# Altium schematic symbol library PTH-Symbols.SchLib: 24 symbols
Pins are listed as number, name and electrical type; pins without a type are passive.

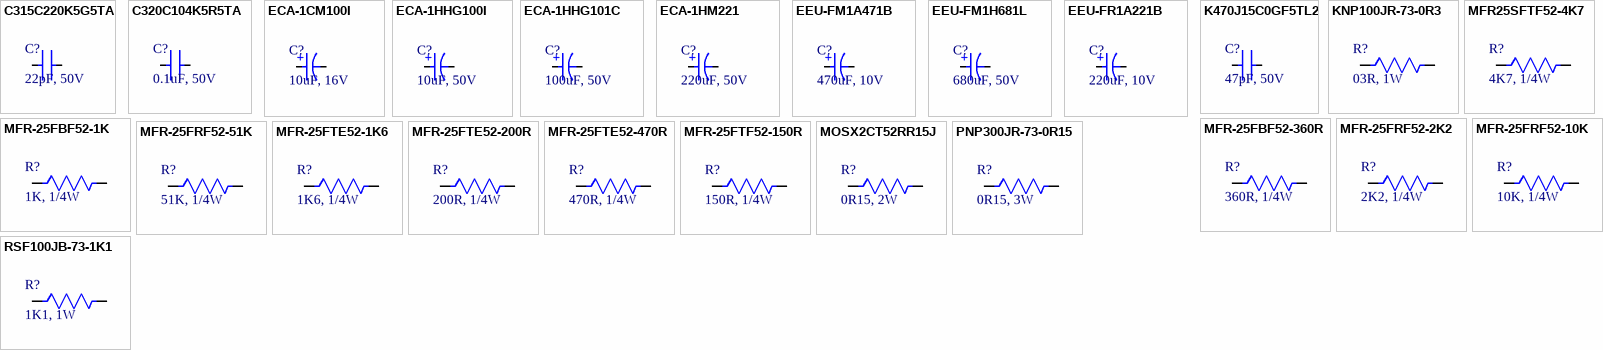
[diagram p0: symbols C315C220K5G5TA to RSF100JB-73-1K1]

## C315C220K5G5TA
designator C?, comment 22pF, 50V
CAP CER 22PF 50V NP0 RADIAL; Manufacturer: KEMET; Manufacturer Part Number: C315C220K5G5TA; Dielectric Material: Ceramic; Multilayer: Yes; Tolerance  (fill in as +-): 10%; Temperature Characteristics Code: C0G; Supplier: Digikey; Supplier Part Number: 399-9723-ND; RoHS: Yes; Category: Ceramic Capacitors; Stock: 2750; Pricing: 1=0.26, 10=0.171, 50=0.1262, 100=0.1028, 500=0.08116, 1000=0.06853, 2500=0.06492, 5000=0.0635 (USD); Mounting Technology: Through Hole; Pins: 2; Package Shape: Rectangular; Case/Package: 1510; Terminal Finish: Nickel; Min Operating Temperature: -55°C; Max Operating Temperature: 125°C; JESD-609 Code: e3; Value: 22pF; Capacitor Type: Ceramic; Package Style: RadialMeter; Packaging: Bulk; Tolerance (fill in as +-): 10%; Rated DC Voltage (URdc): 50V; Termination: Wire; Length: 3.81mm; Width: 2.54mm; Height: 5.33mm; Terminal Pitch: 2.54mm; Reach SVHC Compliant: Yes; RoHS Compliant: Yes; ComponentLink1URL: https://datasheet.ciiva.com:443/pdfs/VipMasterIC/IC/KEME/KEME-S-A0007358335/KEME-S-A0007358335-1.pdf?src-supplier=IHS+Markit; ComponentLink1Description: https://datasheet.ciiva.com:443/pdfs/VipMasterIC/IC/KEME/KEME-S-A0007358335/KEME-S-A0007358335-1.pdf?src-supplier=IHS+Markit; ComponentLink2URL: https://datasheet.ciiva.com/28366/706880-28366741.pdf?src-supplier=Element14; ComponentLink2Description: https://datasheet.ciiva.com/28366/706880-28366741.pdf?src-supplier=Element14
footprint CAP-RADIAL-PTH
pins: 1, 2

## C320C104K5R5TA
designator C?, comment 0.1uF, 50V
CAP CER 0.1UF 50V X7R RADIAL; Manufacturer: KEMET; Manufacturer Part Number: C320C104K5R5TA; Dielectric Material: Ceramic; Value: 100nF; Multilayer: Yes; Tolerance  (fill in as +-): 10%; Supplier: Digikey; Supplier Part Number: 399-4264-ND; RoHS: Yes; Category: Ceramic Capacitors; Stock: 12856; Pricing: 1=0.22, 10=0.144, 50=0.101, 100=0.0816, 500=0.0606, 1000=0.05302, 2500=0.0505, 5000=0.04671 (USD); Mounting Technology: Through Hole; Pins: 2; Package Shape: Rectangular; Terminal Finish: Nickel; Min Operating Temperature: -55°C; Max Operating Temperature: 125°C; JESD-609 Code: e3; Capacitor Type: Ceramic; Package Style: RadialMeter; Packaging: Bulk; Tolerance (fill in as +-): 10%; Rated DC Voltage (URdc): 50V; Temperature Characteristics Code: X7R; Termination: Wire; Length: 5.08mm; Width: 3.18mm; Height: 6.6mm; Terminal Pitch: 2.54mm; Reach SVHC Compliant: Yes; RoHS Compliant: Yes; ComponentLink1URL: https://datasheet.ciiva.com:443/pdfs/VipMasterIC/IC/KEME/KEME-S-A0009782347/KEME-S-A0009782347-1.pdf?src-supplier=IHS+Markit; ComponentLink1Description: https://datasheet.ciiva.com:443/pdfs/VipMasterIC/IC/KEME/KEME-S-A0009782347/KEME-S-A0009782347-1.pdf?src-supplier=IHS+Markit; ComponentLink2URL: https://datasheet.ciiva.com/7817/1732702-7817354.pdf?src-supplier=Element14; ComponentLink2Description: https://datasheet.ciiva.com/7817/1732702-7817354.pdf?src-supplier=Element14; ComponentLink3URL: https://datasheet.ciiva.com/11786/0900766b80717e24-11786584.pdf?src-supplier=Rs; ComponentLink3Description: https://datasheet.ciiva.com/11786/0900766b80717e24-11786584.pdf?src-supplier=Rs; ComponentLink4URL: https://datasheet.ciiva.com/39122/f3101-goldmax-39122993.pdf?src-supplier=Onlinecomponents.com; ComponentLink4Description: https://datasheet.ciiva.com/39122/f3101-goldmax-39122993.pdf?src-supplier=Onlinecomponents.com; ComponentLink5URL: https://datasheet.ciiva.com/27052/1570161-27052544.pdf?src-supplier=Jameco; ComponentLink5Description: https://datasheet.ciiva.com/27052/1570161-27052544.pdf?src-supplier=Jameco; ComponentLink6URL: https://datasheet.ciiva.com/7817/f3101-goldmax-7817514.pdf?src-supplier=Element14; ComponentLink6Description: https://datasheet.ciiva.com/7817/f3101-goldmax-7817514.pdf?src-supplier=Element14; ComponentLink7URL: https://datasheet.ciiva.com/14585/70095037-14585005.pdf?src-supplier=Allied+Electronics; ComponentLink7Description: https://datasheet.ciiva.com/14585/70095037-14585005.pdf?src-supplier=Allied+Electronics; ComponentLink8URL: https://datasheet.ciiva.com/5389/f3101-goldmax-334604-5389886.pdf?src-supplier=Mouser; ComponentLink8Description: https://datasheet.ciiva.com/5389/f3101-goldmax-334604-5389886.pdf?src-supplier=Mouser
footprint CAP-RADIAL-MEDIUM-PTH
pins: 1, 2

## ECA-1CM100I
designator C?, comment 10uF, 16V
CAP ALUM 10UF 20% 16V RADIAL; Manufacturer: Panasonic; Manufacturer Part Number: ECA-1CM100I; Manufacturer Series: M; Dielectric Material: Aluminium; Polarity: Polarized; Leakage Current: 3uA; Ripple Current: 30mA; Tan Delta: 0.2; Supplier: Digikey; Supplier Part Number: P19513CT-ND; RoHS: Yes; Category: Aluminum Electrolytic Capacitors; Stock: 12491; Pricing: 1=0.21, 10=0.136, 50=0.0858, 100=0.0686, 500=0.04954, 1000=0.04383 (USD); Mounting Technology: Through Hole; Pins: 2; Package Shape: Cylindrical; Terminal Finish: Tin; Min Operating Temperature: -40°C; Max Operating Temperature: 85°C; JESD-609 Code: e3; Value: 10uF; Capacitor Type: Aluminium; Tolerance  (fill in as +-): 20%; Package Style: RadialMeter; Packaging: Tape and Reel; Tolerance (fill in as +-): 20%; Rated DC Voltage (URdc): 16V; Series: ECA-M; Termination: Wire; Diameter: 5mm; Length: 11mm; Terminal Pitch: 2.5mm; Reach SVHC Compliant: Yes; RoHS Compliant: Yes; ComponentLink1URL: https://datasheet.ciiva.com:443/pdfs/VipMasterIC/IC/PANA/PANA-S-A0009891632/PANA-S-A0009891632-1.pdf?src-supplier=IHS+Markit; ComponentLink1Description: https://datasheet.ciiva.com:443/pdfs/VipMasterIC/IC/PANA/PANA-S-A0009891632/PANA-S-A0009891632-1.pdf?src-supplier=IHS+Markit; ComponentLink2URL: http://industrial.panasonic.com/www-cgi/jvcr13pz.cgi?E+PZ+3+ABA0012+ECA1CM100I+7+WW?src-supplier=Digikey; ComponentLink2Description: http://industrial.panasonic.com/www-cgi/jvcr13pz.cgi?E+PZ+3+ABA0012+ECA1CM100I+7+WW?src-supplier=Digikey; ComponentLink3URL: https://media.digikey.com/pdf/Data%20Sheets/Panasonic%20Electronic%20Components/ECA-xxM%20Series,TypeA.pdf?src-supplier=Digikey; ComponentLink3Description: https://media.digikey.com/pdf/Data%20Sheets/Panasonic%20Electronic%20Components/ECA-xxM%20Series,TypeA.pdf?src-supplier=Digikey; ComponentLink4URL: https://datasheet.octopart.com/ECA-1CM100I-Panasonic-datasheet-136531302.pdf?src-supplier=Newark; ComponentLink4Description: https://datasheet.octopart.com/ECA-1CM100I-Panasonic-datasheet-136531302.pdf?src-supplier=Newark; ComponentLink5URL: https://datasheet.octopart.com/ECA-1CM100I-Panasonic-datasheet-13269089.pdf?src-supplier=Electro+Sonic; ComponentLink5Description: https://datasheet.octopart.com/ECA-1CM100I-Panasonic-datasheet-13269089.pdf?src-supplier=Electro+Sonic; ComponentLink6URL: https://datasheet.octopart.com/ECA1CM100I-Panasonic-datasheet-151511718.pdf?src-supplier=TME; ComponentLink6Description: https://datasheet.octopart.com/ECA1CM100I-Panasonic-datasheet-151511718.pdf?src-supplier=TME; ComponentLink7URL: https://datasheet.octopart.com/ECA-1CM100I-Panasonic-datasheet-154766079.pdf?src-supplier=Master+Electronics; ComponentLink7Description: https://datasheet.octopart.com/ECA-1CM100I-Panasonic-datasheet-154766079.pdf?src-supplier=Master+Electronics
footprint ECAP-10UF-16V
pins: 1, 2
text: +

## ECA-1HHG100I
designator C?, comment 10uF, 50V
CAP ALUM 10UF 20% 50V RADIAL TH; Manufacturer: Panasonic; Manufacturer Part Number: ECA-1HHG100I; Manufacturer Series: NHG; Dielectric Material: Aluminium; Polarity: Polarized; Leakage Current: 5uA; Ripple Current: 39mA; Tan Delta: 0.12; Supplier: Digikey; Supplier Part Number: P19445CT-ND; RoHS: Yes; Category: Aluminum Electrolytic Capacitors; Stock: 35585; Pricing: 1=0.19, 10=0.123, 50=0.0864, 100=0.0697, 500=0.0518, 1000=0.04533 (USD); Mounting Technology: Through Hole; Pins: 2; Package Shape: Cylindrical; Terminal Finish: Tin; Min Operating Temperature: -55°C; Max Operating Temperature: 105°C; JESD-609 Code: e3; Value: 10uF; Capacitor Type: Aluminium; Tolerance  (fill in as +-): 20%; Package Style: RadialMeter; Packaging: Tape and Reel; Tolerance (fill in as +-): 20%; Rated DC Voltage (URdc): 50V; Series: ECA-NHG; Termination: Wire; Diameter: 5mm; Length: 11mm; Terminal Pitch: 2.5mm; Reach SVHC Compliant: Yes; RoHS Compliant: Yes; ComponentLink1URL: https://datasheet.ciiva.com:443/pdfs/VipMasterIC/IC/PANA/PANA-S-A0009903858/PANA-S-A0009903858-1.pdf?src-supplier=IHS+Markit; ComponentLink1Description: https://datasheet.ciiva.com:443/pdfs/VipMasterIC/IC/PANA/PANA-S-A0009903858/PANA-S-A0009903858-1.pdf?src-supplier=IHS+Markit; ComponentLink2URL: https://datasheet.ciiva.com/26882/getdatasheetpartid-479260-26882746.pdf?src-supplier=Verical; ComponentLink2Description: https://datasheet.ciiva.com/26882/getdatasheetpartid-479260-26882746.pdf?src-supplier=Verical; ComponentLink3URL: https://datasheet.ciiva.com/11680/aba0000ce26-11680984.pdf?src-supplier=Avnet; ComponentLink3Description: https://datasheet.ciiva.com/11680/aba0000ce26-11680984.pdf?src-supplier=Avnet
footprint ECAP-10UF-50V
pins: 1, 2
text: +

## ECA-1HHG101C
designator C?, comment 100uF, 50V
CAP ALUM 100UF 20% 50V RADIAL TH; Manufacturer: Panasonic; Manufacturer Part Number: ECA-1HHG101C; Supplier: Digikey; Supplier Part Number: 10-ECA-1HHG101C-ND; RoHS: Yes; Category: Aluminum Electrolytic Capacitors; Stock: 204; Pricing: 1=0.33, 10=0.215, 50=0.1586, 200=0.1291, 600=0.10192, 1000=0.08607, 2600=0.08153, 5000=0.07975 (USD); ComponentLink1URL: https://datasheet.ciiva.com/24228/a-e-461514-24228799.pdf?src-supplier=Mouser; ComponentLink1Description: https://datasheet.ciiva.com/24228/a-e-461514-24228799.pdf?src-supplier=Mouser; Value: 100uF
footprint ECAP-100UF-50V
pins: 1, 2
text: +

## ECA-1HM221
designator C?, comment 220uF, 50V
CAP ALUM 220UF 20% 50V RADIAL; Manufacturer: Panasonic; Manufacturer Part Number: ECA-1HM221; Dielectric Material: Aluminium; Polarity: Polarized; Leakage Current: 110uA; Ripple Current: 400mA; Tan Delta: 0.12; Supplier: Digikey; Supplier Part Number: P5183-ND; RoHS: Yes; Category: Aluminum Electrolytic Capacitors; Stock: 45823; Pricing: 1=0.51, 10=0.345, 200=0.22705, 1000=0.15076, 5000=0.13302, 10000=0.12416 (USD); Mounting Technology: Through Hole; Pins: 2; Package Shape: Cylindrical; Terminal Finish: Tin; Min Operating Temperature: -40°C; Max Operating Temperature: 85°C; JESD-609 Code: e3; Value: 220uF; Capacitor Type: Aluminium; Tolerance  (fill in as +-): 20%; Package Style: RadialMeter; Packaging: Bulk; Tolerance (fill in as +-): 20%; Rated DC Voltage (URdc): 50V; Termination: Wire; Diameter: 10mm; Length: 12.5mm; Terminal Pitch: 5mm; Reach SVHC Compliant: Yes; RoHS Compliant: Yes; ComponentLink1URL: https://datasheet.ciiva.com:443/pdfs/VipMasterIC/IC/PANA/PANA-S-A0009459698/PANA-S-A0009459698-1.pdf?src-supplier=IHS+Markit; ComponentLink1Description: https://datasheet.ciiva.com:443/pdfs/VipMasterIC/IC/PANA/PANA-S-A0009459698/PANA-S-A0009459698-1.pdf?src-supplier=IHS+Markit; ComponentLink2URL: https://datasheet.ciiva.com/11778/0900766b800274c2-11778160.pdf?src-supplier=Rs; ComponentLink2Description: https://datasheet.ciiva.com/11778/0900766b800274c2-11778160.pdf?src-supplier=Rs; ComponentLink3URL: https://datasheet.ciiva.com/11213/aba0000ce12-11213503.pdf?src-supplier=Avnet; ComponentLink3Description: https://datasheet.ciiva.com/11213/aba0000ce12-11213503.pdf?src-supplier=Avnet; ComponentLink4URL: https://datasheet.ciiva.com/24236/aba0000ce12-465472-24236268.pdf?src-supplier=Mouser; ComponentLink4Description: https://datasheet.ciiva.com/24236/aba0000ce12-465472-24236268.pdf?src-supplier=Mouser; ComponentLink5URL: https://datasheet.ciiva.com/48520/radial-m-eng-tds-48520281.pdf?src-supplier=Distrelec; ComponentLink5Description: https://datasheet.ciiva.com/48520/radial-m-eng-tds-48520281.pdf?src-supplier=Distrelec; ComponentLink6URL: https://datasheet.ciiva.com/14586/70067785-14586382.pdf?src-supplier=Allied+Electronics; ComponentLink6Description: https://datasheet.ciiva.com/14586/70067785-14586382.pdf?src-supplier=Allied+Electronics; ComponentLink7URL: https://datasheet.ciiva.com/14598/70067785-14598408.pdf?src-supplier=Allied+Electronics; ComponentLink7Description: https://datasheet.ciiva.com/14598/70067785-14598408.pdf?src-supplier=Allied+Electronics; ComponentLink8URL: https://datasheet.ciiva.com/16202/aba0000ce12-16202936.pdf?src-supplier=Future+Electronics; ComponentLink8Description: https://datasheet.ciiva.com/16202/aba0000ce12-16202936.pdf?src-supplier=Future+Electronics; ComponentLink9URL: https://datasheet.ciiva.com/15925/aba0000ce12-15925304.pdf?src-supplier=Onlinecomponents.com; ComponentLink9Description: https://datasheet.ciiva.com/15925/aba0000ce12-15925304.pdf?src-supplier=Onlinecomponents.com
footprint ECAP-10x125
pins: 1, 2
text: +

## EEU-FM1A471B
designator C?, comment 470uF, 10V
CAP ALUM 470UF 20% 10V RADIAL; Manufacturer: Panasonic; Manufacturer Part Number: EEU-FM1A471B; Manufacturer Series: FM; Dielectric Material: Aluminium; Polarity: Polarized; Leakage Current: 47uA; Ripple Current: 712.5mA; Tan Delta: 0.19; Supplier: Digikey; Supplier Part Number: P19696CT-ND; RoHS: Yes; Category: Aluminum Electrolytic Capacitors; Stock: 4062; Pricing: 1=0.29, 10=0.197, 50=0.1572, 100=0.1298, 500=0.10138 (USD); Mounting Technology: Through Hole; Pins: 2; Package Shape: Cylindrical; Terminal Finish: Tin; Min Operating Temperature: -40°C; Max Operating Temperature: 105°C; JESD-609 Code: e3; Value: 470uF; Capacitor Type: Aluminium; Tolerance  (fill in as +-): 20%; Package Style: RadialMeter; Packaging: Tape and Reel; Tolerance (fill in as +-): 20%; Rated DC Voltage (URdc): 10V; Series: EEU-FM; Termination: Wire; Diameter: 8mm; Length: 11.5mm; Terminal Pitch: 5mm; Reach SVHC Compliant: Yes; RoHS Compliant: Yes; ComponentLink1URL: https://datasheet.ciiva.com:443/pdfs/VipMasterIC/IC/PANA/PANA-S-A0009001277/PANA-S-A0009001277-1.pdf?src-supplier=IHS+Markit; ComponentLink1Description: https://datasheet.ciiva.com:443/pdfs/VipMasterIC/IC/PANA/PANA-S-A0009001277/PANA-S-A0009001277-1.pdf?src-supplier=IHS+Markit; ComponentLink2URL: https://datasheet.ciiva.com/24233/a-e-461514-24233644.pdf?src-supplier=Mouser; ComponentLink2Description: https://datasheet.ciiva.com/24233/a-e-461514-24233644.pdf?src-supplier=Mouser; ComponentLink3URL: https://datasheet.ciiva.com/11679/aba0000ce108-11679159.pdf?src-supplier=Avnet; ComponentLink3Description: https://datasheet.ciiva.com/11679/aba0000ce108-11679159.pdf?src-supplier=Avnet
footprint ECAP-8X11.5
pins: 1, 2
text: +

## EEU-FM1H681L
designator C?, comment 680uF, 50V
CAP ALUM 680UF 20% 50V RADIAL; Manufacturer: Panasonic; Manufacturer Part Number: EEU-FM1H681L; Dielectric Material: Aluminium; Polarity: Polarized; Leakage Current: 340uA; Ripple Current: 2.37A; Tan Delta: 0.1; Supplier: Digikey; Supplier Part Number: P12402-ND; RoHS: Yes; Category: Aluminum Electrolytic Capacitors; Stock: 7037; Pricing: 1=1.09, 10=0.821, 50=0.7488, 100=0.6134, 500=0.48958, 1000=0.43198, 2500=0.40318, 5000=0.38878 (USD); Mounting Technology: Through Hole; Pins: 2; Package Shape: Cylindrical; Terminal Finish: Tin; Min Operating Temperature: -40°C; Max Operating Temperature: 105°C; JESD-609 Code: e3; Value: 680uF; Capacitor Type: Aluminium; Tolerance  (fill in as +-): 20%; Package Style: RadialMeter; Packaging: Bulk; Tolerance (fill in as +-): 20%; Rated DC Voltage (URdc): 50V; Termination: Wire; Diameter: 12.5mm; Length: 30mm; Terminal Pitch: 5mm; Reach SVHC Compliant: Yes; RoHS Compliant: Yes; ComponentLink1URL: https://datasheet.ciiva.com:443/pdfs/VipMasterIC/IC/PANA/PANA-S-A0009001277/PANA-S-A0009001277-1.pdf?src-supplier=IHS+Markit; ComponentLink1Description: https://datasheet.ciiva.com:443/pdfs/VipMasterIC/IC/PANA/PANA-S-A0009001277/PANA-S-A0009001277-1.pdf?src-supplier=IHS+Markit; ComponentLink2URL: https://datasheet.ciiva.com/11779/0900766b805f3abe-11779767.pdf?src-supplier=Rs; ComponentLink2Description: https://datasheet.ciiva.com/11779/0900766b805f3abe-11779767.pdf?src-supplier=Rs; ComponentLink3URL: https://datasheet.ciiva.com/43458/654842-43458649.pdf?src-supplier=Farnell; ComponentLink3Description: https://datasheet.ciiva.com/43458/654842-43458649.pdf?src-supplier=Farnell; ComponentLink4URL: https://datasheet.ciiva.com/11676/aba0000ce108-11676926.pdf?src-supplier=Avnet; ComponentLink4Description: https://datasheet.ciiva.com/11676/aba0000ce108-11676926.pdf?src-supplier=Avnet; ComponentLink5URL: https://datasheet.ciiva.com/24023/a-e-461514-24023672.pdf?src-supplier=Mouser; ComponentLink5Description: https://datasheet.ciiva.com/24023/a-e-461514-24023672.pdf?src-supplier=Mouser; ComponentLink6URL: https://datasheet.ciiva.com/48542/eeufm-series-eng-tds-48542649.pdf?src-supplier=Distrelec; ComponentLink6Description: https://datasheet.ciiva.com/48542/eeufm-series-eng-tds-48542649.pdf?src-supplier=Distrelec; ComponentLink7URL: https://datasheet.ciiva.com/46440/654842-46440665.pdf?src-supplier=Element14; ComponentLink7Description: https://datasheet.ciiva.com/46440/654842-46440665.pdf?src-supplier=Element14; ComponentLink8URL: https://datasheet.ciiva.com/14601/70068540-14601481.pdf?src-supplier=Allied+Electronics; ComponentLink8Description: https://datasheet.ciiva.com/14601/70068540-14601481.pdf?src-supplier=Allied+Electronics; ComponentLink9URL: https://datasheet.ciiva.com/30112/aba0000ce108-30112461.pdf?src-supplier=Onlinecomponents.com; ComponentLink9Description: https://datasheet.ciiva.com/30112/aba0000ce108-30112461.pdf?src-supplier=Onlinecomponents.com
footprint ECAP-12.5X30
pins: 1, 2
text: +

## EEU-FR1A221B
designator C?, comment 220uF, 10V
CAP ALUM 220UF 20% 10V RADIAL TH; Manufacturer: Panasonic; Manufacturer Part Number: EEU-FR1A221B; Manufacturer Series: FR; Dielectric Material: Aluminium; Polarity: Polarized; Leakage Current: 22uA; Ripple Current: 318.5mA; Tan Delta: 0.19; Supplier: Digikey; Supplier Part Number: P15322CT-ND; RoHS: Yes; Category: Aluminum Electrolytic Capacitors; Stock: 11231; Pricing: 1=0.27, 10=0.179, 50=0.1322, 100=0.1077, 500=0.08498, 1000=0.07177 (USD); Mounting Technology: Through Hole; Pins: 2; Package Shape: Cylindrical; Terminal Finish: Tin; Min Operating Temperature: -40°C; Max Operating Temperature: 105°C; JESD-609 Code: e3; Value: 220uF; Capacitor Type: Aluminium; Tolerance  (fill in as +-): 20%; Package Style: RadialMeter; Packaging: Tape and Reel; Tolerance (fill in as +-): 20%; Rated DC Voltage (URdc): 10V; Series: EEU-FR; Termination: Wire; Diameter: 6.3mm; Length: 11.2mm; Terminal Pitch: 5mm; Reach SVHC Compliant: Yes; RoHS Compliant: Yes; ComponentLink1URL: https://datasheet.ciiva.com:443/pdfs/VipMasterIC/IC/PANA/PANA-S-A0009000947/PANA-S-A0009000947-1.pdf?src-supplier=IHS+Markit; ComponentLink1Description: https://datasheet.ciiva.com:443/pdfs/VipMasterIC/IC/PANA/PANA-S-A0009000947/PANA-S-A0009000947-1.pdf?src-supplier=IHS+Markit; ComponentLink2URL: https://datasheet.ciiva.com/11679/aba0000ce132-11679829.pdf?src-supplier=Avnet; ComponentLink2Description: https://datasheet.ciiva.com/11679/aba0000ce132-11679829.pdf?src-supplier=Avnet; ComponentLink3URL: https://datasheet.ciiva.com/14602/70257620-14602967.pdf?src-supplier=Allied+Electronics; ComponentLink3Description: https://datasheet.ciiva.com/14602/70257620-14602967.pdf?src-supplier=Allied+Electronics; ComponentLink4URL: https://datasheet.ciiva.com/30222/9aba0000ce132-30222781.pdf?src-supplier=Onlinecomponents.com; ComponentLink4Description: https://datasheet.ciiva.com/30222/9aba0000ce132-30222781.pdf?src-supplier=Onlinecomponents.com; ComponentLink5URL: https://datasheet.ciiva.com/16390/aba0000ce132-16390460.pdf?src-supplier=Future+Electronics; ComponentLink5Description: https://datasheet.ciiva.com/16390/aba0000ce132-16390460.pdf?src-supplier=Future+Electronics
footprint ECAP-220UF10V
pins: 1, 2
text: +

## K470J15C0GF5TL2
designator C?, comment 47pF, 50V
CAP CER 47PF 50V C0G/NP0 RADIAL; Manufacturer: Vishay BCcomponents; Manufacturer Part Number: K470J15C0GF5TL2; Dielectric Material: Ceramic; Multilayer: Yes; Tolerance  (fill in as +-): 5%; Temperature Characteristics Code: C0G; Supplier: Digikey; Supplier Part Number: BC1009CT-ND; RoHS: Yes; Category: Ceramic Capacitors; Stock: 46151; Pricing: 1=0.16, 10=0.106, 50=0.0744, 100=0.0601, 500=0.04464, 1000=0.03906 (USD); Mounting Technology: Through Hole; Pins: 2; Package Shape: Rectangular; Terminal Finish: Tin; Min Operating Temperature: -55°C; Max Operating Temperature: 125°C; JESD-609 Code: e3; Value: 47pF; Capacitor Type: Ceramic; Package Style: RadialMeter; Packaging: Tape and Reel; Tolerance (fill in as +-): 5%; Rated DC Voltage (URdc): 50V; Termination: Wire; Length: 4mm; Width: 2.5mm; Height: 5.58mm; Terminal Pitch: 2.5mm; Reach SVHC Compliant: Yes; RoHS Compliant: Yes; ComponentLink1URL: https://datasheet.ciiva.com:443/pdfs/VipMasterIC/IC/VISH/VISHS88539/VISHS88539-1.pdf?src-supplier=IHS+Markit; ComponentLink1Description: https://datasheet.ciiva.com:443/pdfs/VipMasterIC/IC/VISH/VISHS88539/VISHS88539-1.pdf?src-supplier=IHS+Markit; ComponentLink2URL: https://datasheet.ciiva.com/145/kseries-145766.pdf?src-supplier=Digikey; ComponentLink2Description: https://datasheet.ciiva.com/145/kseries-145766.pdf?src-supplier=Digikey; ComponentLink3URL: https://datasheet.ciiva.com/145/kseries-145767.pdf?src-supplier=Digikey; ComponentLink3Description: https://datasheet.ciiva.com/145/kseries-145767.pdf?src-supplier=Digikey; ComponentLink4URL: https://datasheet.ciiva.com/7974/1682830-7974863.pdf?src-supplier=Element14; ComponentLink4Description: https://datasheet.ciiva.com/7974/1682830-7974863.pdf?src-supplier=Element14
footprint CAP-RADIAL-PTH
pins: 1, 2

## KNP100JR-73-0R3
designator R?, comment 03R, 1W
RES 0.3 OHM 5% 1W AXIAL; Manufacturer: Yageo; Manufacturer Part Number: KNP100JR-73-0R3; Value: 0R3; Supplier: Digikey; Supplier Part Number: 13-KNP100JR-73-0R3CT-ND; RoHS: Yes; Category: Through-Hole Resistors; Stock: 3158; Pricing: 1=0.33, 10=0.225, 25=0.1752, 50=0.1292, 100=0.0898, 250=0.07828, 500=0.06456, 1000=0.04836 (USD); RoHS Compliant: Yes; ComponentLink1URL: https://datasheet.ciiva.com/2711/yageolr-knp-2013-2711818.pdf?src-supplier=Digikey; ComponentLink1Description: https://datasheet.ciiva.com/2711/yageolr-knp-2013-2711818.pdf?src-supplier=Digikey; ComponentLink2URL: https://datasheet.ciiva.com/2711/yageolr-knp-2013-2711817.pdf?src-supplier=Digikey; ComponentLink2Description: https://datasheet.ciiva.com/2711/yageolr-knp-2013-2711817.pdf?src-supplier=Digikey
footprint RES-03R-1W
pins: 1, 2

## MFR25SFTF52-4K7
designator R?, comment 4K7, 1/4W
RES 4.7K OHM 1% 1/4W AXIAL; Manufacturer: Yageo; Manufacturer Part Number: MFR25SFTF52-4K7; Supplier: Digikey; Supplier Part Number: 13-MFR25SFTF52-4K7CT-ND; RoHS: Yes; Category: Through-Hole Resistors; Stock: 13558; Pricing: 1=0.1, 10=0.071, 25=0.052, 50=0.0402, 100=0.0273, 250=0.02244, 500=0.01784, 1000=0.01267 (USD); ComponentLink1URL: https://datasheet.ciiva.com:443/pdfs/VipMasterIC/IC/YAGO/YAGO-S-A0009358480/YAGO-S-A0009358480-1.pdf?src-supplier=IHS+Markit; ComponentLink1Description: https://datasheet.ciiva.com:443/pdfs/VipMasterIC/IC/YAGO/YAGO-S-A0009358480/YAGO-S-A0009358480-1.pdf?src-supplier=IHS+Markit; ComponentLink2URL: https://www.yageo.com/upload/media/product/products/datasheet/lr/Yageo_LR_MFR_1.pdf?src-supplier=Digikey; ComponentLink2Description: https://www.yageo.com/upload/media/product/products/datasheet/lr/Yageo_LR_MFR_1.pdf?src-supplier=Digikey; Value: 4k7
footprint RES-4K7-0W250
pins: 1, 2

## MFR-25FBF52-1K
designator R?, comment 1K, 1/4W
RES 1K OHM 1% 1/4W AXIAL; Manufacturer: Yageo; Manufacturer Part Number: MFR-25FBF52-1K; Power: 250mW; Value: 1kR; Temperature Coefficient: 100ppm/°C; Working Voltage: 250V; Rated Temperature: 70°C; Lead Diameter: 0.55mm; Lead Length: 28mm; Package Diameter: 2.4mm; Package Length: 6.3mm; Supplier: Digikey; Supplier Part Number: 1.00KXBK-ND; RoHS: Yes; Category: Through-Hole Resistors; Stock: 60605; Pricing: 1=0.1, 10=0.077, 25=0.056, 50=0.0436, 100=0.0296, 250=0.02428, 500=0.01928, 1000=0.01369, 5000=0.01058 (USD); Mounting Technology: Through Hole; Pins: 2; Package Shape: Tubular; Terminal Finish: Tin; Min Operating Temperature: -55°C; Max Operating Temperature: 155°C; Tolerance: 1%; JESD-609 Code: e3; Resistor Type: FIXED RESISTOR; Construction: Cylindrical; Package Style: AxialMeter; Packaging: Bulk; Technology: METAL FILM; Termination: Wire; Reach SVHC Compliant: Yes; RoHS Compliant: Yes; ComponentLink1URL: https://datasheet.ciiva.com:443/pdfs/VipMasterIC/IC/YAGO/YAGOS02704/YAGOS02704-1.pdf?src-supplier=IHS+Markit; ComponentLink1Description: https://datasheet.ciiva.com:443/pdfs/VipMasterIC/IC/YAGO/YAGOS02704/YAGOS02704-1.pdf?src-supplier=IHS+Markit; ComponentLink2URL: https://datasheet.ciiva.com/25646/yageolr-mfr-2013-25646206.pdf?src-supplier=Digikey; ComponentLink2Description: https://datasheet.ciiva.com/25646/yageolr-mfr-2013-25646206.pdf?src-supplier=Digikey
footprint RES-1K-0W250
pins: 1, 2

## MFR-25FBF52-360R
designator R?, comment 360R, 1/4W
RES 360 OHM 1% 1/4W AXIAL; Manufacturer: Yageo; Manufacturer Part Number: MFR-25FBF52-360R; Power: 250mW; Temperature Coefficient: -100100ppm/°C; Working Voltage: 250V; Lead Diameter: 0.55mm; Lead Length: 28mm; Package Diameter: 2.4mm; Package Length: 6.3mm; Supplier: DigiKey; Supplier Part Number: 13-MFR-25FBF52-360R-ND; Category: Through-Hole Resistors; Stock: 9990; Pricing: 1=0.1, 10=0.077, 25=0.056, 50=0.0436, 100=0.0296, 250=0.02428, 500=0.01928, 1000=0.01369, 5000=0.01058 (USD); Pins: 2; Package Shape: Cylindrical; Terminal Finish: Tin; Min Operating Temperature: -55°C; Max Operating Temperature: 155°C; Tolerance: 1%; JESD-609 Code: e3; Resistor Type: FIXED RESISTOR; Construction: Cylindrical; Package Style: AxialMeter; Packaging: Bulk; Value: 360R; Series: MFR; Technology: METAL FILM; Reach SVHC Compliant: Yes; RoHS Compliant: Yes; ComponentLink1URL: https://datasheet.ciiva.com:443/pdfs/VipMasterIC/IC/YAGO/YAGOS02172/YAGOS02172-1.pdf?src-supplier=IHS+Markit; ComponentLink1Description: https://datasheet.ciiva.com:443/pdfs/VipMasterIC/IC/YAGO/YAGOS02172/YAGOS02172-1.pdf?src-supplier=IHS+Markit; ComponentLink2URL: https://www.yageo.com/upload/media/product/products/datasheet/lr/Yageo_LR_MFR_1.pdf?src-supplier=Digikey; ComponentLink2Description: https://www.yageo.com/upload/media/product/products/datasheet/lr/Yageo_LR_MFR_1.pdf?src-supplier=Digikey; ComponentLink3URL: https://datasheet.octopart.com/MFR-25FBF52-360R-Yageo-datasheet-28066692.pdf; ComponentLink3Description: https://datasheet.octopart.com/MFR-25FBF52-360R-Yageo-datasheet-28066692.pdf
footprint RES-360R-0W250
pins: 1, 2

## MFR-25FRF52-2K2
designator R?, comment 2K2, 1/4W
RES 2.2K OHM 1% 1/4W AXIAL; Manufacturer: Yageo; Manufacturer Part Number: MFR-25FRF52-2K2; Supplier: Digikey; Supplier Part Number: 13-MFR-25FRF52-2K2CT-ND; RoHS: Yes; Category: Through-Hole Resistors; Stock: 174; Pricing: 1=0.1, 10=0.077, 25=0.056, 50=0.0436, 100=0.0296, 250=0.02428, 500=0.01928, 1000=0.01369 (USD); ComponentLink1URL: https://datasheet.ciiva.com:443/pdfs/VipMasterIC/IC/YAGO/YAGO-S-A0009358480/YAGO-S-A0009358480-1.pdf?src-supplier=IHS+Markit; ComponentLink1Description: https://datasheet.ciiva.com:443/pdfs/VipMasterIC/IC/YAGO/YAGO-S-A0009358480/YAGO-S-A0009358480-1.pdf?src-supplier=IHS+Markit; ComponentLink2URL: http://www.mouser.com/ds/2/447/Yageo%20LR_MFR_2013-467719.pdf?src-supplier=Mouser; ComponentLink2Description: http://www.mouser.com/ds/2/447/Yageo%20LR_MFR_2013-467719.pdf?src-supplier=Mouser; ComponentLink3URL: https://www.yageo.com/upload/media/product/products/datasheet/lr/Yageo_LR_MFR_1.pdf?src-supplier=Digikey; ComponentLink3Description: https://www.yageo.com/upload/media/product/products/datasheet/lr/Yageo_LR_MFR_1.pdf?src-supplier=Digikey; Value: 2k2
footprint RES-2K2-0W250
pins: 1, 2

## MFR-25FRF52-10K
designator R?, comment 10K, 1/4W
RES 10K OHM 1% 1/4W AXIAL; Manufacturer: Yageo; Manufacturer Part Number: MFR-25FRF52-10K; Power: 250mW; Rated Temperature: 70°C; Value: 10kR; Temperature Coefficient: 100ppm/°C; Working Voltage: 250V; Lead Diameter: 0.55mm; Lead Length: 28mm; Package Diameter: 2.4mm; Package Length: 6.3mm; Supplier: Digikey; Supplier Part Number: 13-MFR-25FRF52-10KCT-ND; RoHS: Yes; Category: Through-Hole Resistors; Stock: 93439; Pricing: 1=0.1, 10=0.077, 25=0.056, 50=0.0436, 100=0.0296, 250=0.02428, 500=0.01928, 1000=0.01369 (USD); Mounting Technology: Through Hole; Pins: 2; Package Shape: Tubular; Terminal Finish: Tin; Min Operating Temperature: -55°C; Max Operating Temperature: 155°C; Tolerance: 1%; JESD-609 Code: e3; Resistor Type: FIXED RESISTOR; Construction: Cylindrical; Package Style: AxialMeter; Packaging: Tape and Reel; Technology: METAL FILM; Termination: Wire; Reach SVHC Compliant: Yes; RoHS Compliant: Yes; ComponentLink1URL: https://datasheet.ciiva.com:443/pdfs/VipMasterIC/IC/YAGO/YAGO-S-A0009358480/YAGO-S-A0009358480-1.pdf?src-supplier=IHS+Markit; ComponentLink1Description: https://datasheet.ciiva.com:443/pdfs/VipMasterIC/IC/YAGO/YAGO-S-A0009358480/YAGO-S-A0009358480-1.pdf?src-supplier=IHS+Markit; ComponentLink2URL: https://datasheet.ciiva.com/25645/yageolr-mfr-2013-25645549.pdf?src-supplier=Digikey; ComponentLink2Description: https://datasheet.ciiva.com/25645/yageolr-mfr-2013-25645549.pdf?src-supplier=Digikey
footprint RES-10K-0W250
pins: 1, 2

## MFR-25FRF52-51K
designator R?, comment 51K, 1/4W
RES 51K OHM 1% 1/4W AXIAL; Manufacturer: Yageo; Manufacturer Part Number: MFR-25FRF52-51K; Supplier: Digikey; Supplier Part Number: 13-MFR-25FRF52-51KCT-ND; RoHS: Yes; Category: Through-Hole Resistors; Stock: 92900; Pricing: 1=0.1, 10=0.077, 25=0.056, 50=0.0436, 100=0.0296, 250=0.02428, 500=0.01928, 1000=0.01369 (USD); ComponentLink1URL: https://datasheet.ciiva.com:443/pdfs/VipMasterIC/IC/YAGO/YAGO-S-A0009358480/YAGO-S-A0009358480-1.pdf?src-supplier=IHS+Markit; ComponentLink1Description: https://datasheet.ciiva.com:443/pdfs/VipMasterIC/IC/YAGO/YAGO-S-A0009358480/YAGO-S-A0009358480-1.pdf?src-supplier=IHS+Markit; ComponentLink2URL: http://www.mouser.com/ds/2/447/Yageo%20LR_MFR_2013-467719.pdf?src-supplier=Mouser; ComponentLink2Description: http://www.mouser.com/ds/2/447/Yageo%20LR_MFR_2013-467719.pdf?src-supplier=Mouser; ComponentLink3URL: https://www.yageo.com/upload/media/product/products/datasheet/lr/Yageo_LR_MFR_1.pdf?src-supplier=Digikey; ComponentLink3Description: https://www.yageo.com/upload/media/product/products/datasheet/lr/Yageo_LR_MFR_1.pdf?src-supplier=Digikey; Value: 51k
footprint RES-51K-0W250
pins: 1, 2

## MFR-25FTE52-1K6
designator R?, comment 1K6, 1/4W
RES 1.6K OHM 1% 1/4W AXIAL; Manufacturer: Yageo; Manufacturer Part Number: MFR-25FTE52-1K6; Supplier: Digikey; Supplier Part Number: 13-MFR-25FTE52-1K6CT-ND; RoHS: Yes; Category: Through-Hole Resistors; Stock: 18009; Pricing: 1=0.1, 10=0.073, 25=0.0528, 50=0.0412, 100=0.0279, 250=0.02292, 500=0.01822, 1000=0.01293 (USD); ComponentLink1URL: https://datasheet.ciiva.com:443/pdfs/VipMasterIC/IC/YAGO/YAGO-S-A0009358480/YAGO-S-A0009358480-1.pdf?src-supplier=IHS+Markit; ComponentLink1Description: https://datasheet.ciiva.com:443/pdfs/VipMasterIC/IC/YAGO/YAGO-S-A0009358480/YAGO-S-A0009358480-1.pdf?src-supplier=IHS+Markit; ComponentLink2URL: http://www.mouser.com/ds/2/447/Yageo%20LR_MFR_2013-467719.pdf?src-supplier=Mouser; ComponentLink2Description: http://www.mouser.com/ds/2/447/Yageo%20LR_MFR_2013-467719.pdf?src-supplier=Mouser; ComponentLink3URL: https://www.yageo.com/upload/media/product/products/datasheet/lr/Yageo_LR_MFR_1.pdf?src-supplier=Digikey; ComponentLink3Description: https://www.yageo.com/upload/media/product/products/datasheet/lr/Yageo_LR_MFR_1.pdf?src-supplier=Digikey; Value: 1k6
footprint RES-1K6-0W250
pins: 1, 2

## MFR-25FTE52-200R
designator R?, comment 200R, 1/4W
RES 200 OHM 1% 1/4W AXIAL; Manufacturer: Yageo; Manufacturer Part Number: MFR-25FTE52-200R; Supplier: Digikey; Supplier Part Number: 13-MFR-25FTE52-200RCT-ND; RoHS: Yes; Category: Through-Hole Resistors; Stock: 9002; Pricing: 1=0.1, 10=0.073, 25=0.0528, 50=0.0412, 100=0.0279, 250=0.02292, 500=0.01822, 1000=0.01293 (USD); ComponentLink1URL: https://datasheet.ciiva.com:443/pdfs/VipMasterIC/IC/YAGO/YAGO-S-A0009358480/YAGO-S-A0009358480-1.pdf?src-supplier=IHS+Markit; ComponentLink1Description: https://datasheet.ciiva.com:443/pdfs/VipMasterIC/IC/YAGO/YAGO-S-A0009358480/YAGO-S-A0009358480-1.pdf?src-supplier=IHS+Markit; ComponentLink2URL: http://www.mouser.com/ds/2/447/Yageo%20LR_MFR_2013-467719.pdf?src-supplier=Mouser; ComponentLink2Description: http://www.mouser.com/ds/2/447/Yageo%20LR_MFR_2013-467719.pdf?src-supplier=Mouser; ComponentLink3URL: https://www.yageo.com/upload/media/product/products/datasheet/lr/Yageo_LR_MFR_1.pdf?src-supplier=Digikey; ComponentLink3Description: https://www.yageo.com/upload/media/product/products/datasheet/lr/Yageo_LR_MFR_1.pdf?src-supplier=Digikey; Value: 200R
footprint RES-200R-0W250
pins: 1, 2

## MFR-25FTE52-470R
designator R?, comment 470R, 1/4W
RES 470 OHM 1% 1/4W AXIAL; Manufacturer: Yageo; Manufacturer Part Number: MFR-25FTE52-470R; Power: 250mW; Rated Temperature: 70°C; Temperature Coefficient: 50ppm/°C; Working Voltage: 250V; Lead Diameter: 0.55mm; Lead Length: 28mm; Package Diameter: 2.4mm; Package Length: 6.3mm; Supplier: Digikey; Supplier Part Number: 13-MFR-25FTE52-470RCT-ND; RoHS: Yes; Category: Through-Hole Resistors; Stock: 24507; Pricing: 1=0.1, 10=0.073, 25=0.0528, 50=0.0412, 100=0.0279, 250=0.02292, 500=0.01822, 1000=0.01293 (USD); Mounting Technology: Through Hole; Pins: 2; Package Shape: Tubular; Terminal Finish: Tin; Min Operating Temperature: -55°C; Max Operating Temperature: 155°C; Tolerance: 1%; JESD-609 Code: e3; Resistor Type: FIXED RESISTOR; Construction: Cylindrical; Package Style: AxialMeter; Packaging: Ammo Pack; Value: 470R; Technology: METAL FILM; Termination: Wire; Reach SVHC Compliant: Yes; RoHS Compliant: Yes; ComponentLink1URL: https://datasheet.ciiva.com:443/pdfs/VipMasterIC/IC/YAGO/YAGO-S-A0009358480/YAGO-S-A0009358480-1.pdf?src-supplier=IHS+Markit; ComponentLink1Description: https://datasheet.ciiva.com:443/pdfs/VipMasterIC/IC/YAGO/YAGO-S-A0009358480/YAGO-S-A0009358480-1.pdf?src-supplier=IHS+Markit; ComponentLink2URL: http://www.mouser.com/ds/2/447/Yageo%20LR_MFR_2013-467719.pdf?src-supplier=Mouser; ComponentLink2Description: http://www.mouser.com/ds/2/447/Yageo%20LR_MFR_2013-467719.pdf?src-supplier=Mouser; ComponentLink3URL: https://www.yageo.com/upload/media/product/products/datasheet/lr/Yageo_LR_MFR_1.pdf?src-supplier=Digikey; ComponentLink3Description: https://www.yageo.com/upload/media/product/products/datasheet/lr/Yageo_LR_MFR_1.pdf?src-supplier=Digikey; ComponentLink4URL: https://datasheet.octopart.com/MFR-25FTE52-470R-Yageo-datasheet-175665672.pdf?src-supplier=Element14; ComponentLink4Description: https://datasheet.octopart.com/MFR-25FTE52-470R-Yageo-datasheet-175665672.pdf?src-supplier=Element14
footprint RES-470R-0W250
pins: 1, 2

## MFR-25FTF52-150R
designator R?, comment 150R, 1/4W
RES 150 OHM 1% 1/4W AXIAL; Manufacturer: Yageo; Manufacturer Part Number: MFR-25FTF52-150R; Supplier: Digikey; Supplier Part Number: 13-MFR-25FTF52-150RCT-ND; RoHS: No; Category: Through-Hole Resistors; Stock: 22228; Pricing: 1=0.1, 10=0.073, 25=0.0528, 50=0.0412, 100=0.0279, 250=0.02292, 500=0.01822, 1000=0.01293 (USD); ComponentLink1URL: https://www.yageo.com/upload/media/product/products/datasheet/lr/Yageo_LR_MFR_1.pdf?src-supplier=Digikey; ComponentLink1Description: https://www.yageo.com/upload/media/product/products/datasheet/lr/Yageo_LR_MFR_1.pdf?src-supplier=Digikey; Value: 150R
footprint RES-150R-0W250
pins: 1, 2

## MOSX2CT52RR15J
designator R?, comment 0R15, 2W
RES 0.15 OHM 5% 2W AXIAL; Manufacturer: KOA Speer; Manufacturer Part Number: MOSX2CT52RR15J; Supplier: Digikey; Supplier Part Number: 2019-MOSX2CT52RR15JCT-ND; RoHS: No; Category: Through-Hole Resistors; Stock: 62; Pricing: 1=0.41, 10=0.298, 25=0.2388, 50=0.1772, 100=0.125, 250=0.11136, 500=0.09544, 1000=0.07272 (USD); RoHS Compliant: No; ComponentLink1URL: https://datasheet.ciiva.com:443/pdfs/VipMasterIC/IC/KOAS/KOAS-S-A0004210342/KOAS-S-A0004210310-1.pdf?src-supplier=IHS+Markit; ComponentLink1Description: https://datasheet.ciiva.com:443/pdfs/VipMasterIC/IC/KOAS/KOAS-S-A0004210342/KOAS-S-A0004210310-1.pdf?src-supplier=IHS+Markit; ComponentLink2URL: http://components.arrow.com/part/dataview/43045961S7741623N5146?src-supplier=Arrow+Electronics; ComponentLink2Description: http://components.arrow.com/part/dataview/43045961S7741623N5146?src-supplier=Arrow+Electronics; ComponentLink3URL: http://www.mouser.com/ds/2/219/MOS-16613.pdf?src-supplier=Mouser; ComponentLink3Description: http://www.mouser.com/ds/2/219/MOS-16613.pdf?src-supplier=Mouser; ComponentLink4URL: https://www.verical.com/server-webapp/html/getDatasheet?partID=170912&src-supplier=Verical; ComponentLink4Description: https://www.verical.com/server-webapp/html/getDatasheet?partID=170912&src-supplier=Verical; ComponentLink5URL: https://datasheet.octopart.com/MOSX2CT52RR15J-KOA-Speer-datasheet-149653809.pdf?src-supplier=Element14; ComponentLink5Description: https://datasheet.octopart.com/MOSX2CT52RR15J-KOA-Speer-datasheet-149653809.pdf?src-supplier=Element14; Value: 0R15
footprint RES-0R15-2W
pins: 1, 2

## PNP300JR-73-0R15
designator R?, comment 0R15, 3W
RES 0.15 OHM 5% 3W AXIAL; Manufacturer: Yageo; Manufacturer Part Number: PNP300JR-73-0R15; Manufacturer Series: PNP; Value: 150mR; Working Voltage: 300V; Lead Diameter: 0.8mm; Lead Length: 35mm; Package Diameter: 4.5mm; Package Length: 11.5mm; Supplier: Digikey; Supplier Part Number: 13-PNP300JR-73-0R15CT-ND; RoHS: Yes; Category: Through-Hole Resistors; Stock: 8861; Pricing: 1=0.5, 10=0.335, 25=0.278, 50=0.2352, 100=0.176, 250=0.1568, 500=0.12828, 1000=0.09977 (USD); Pins: 2; Package Shape: Cylindrical; Min Operating Temperature: -40°C; Max Operating Temperature: 200°C; Tolerance: 5%; Resistor Type: FIXED RESISTOR; Construction: Cylindrical; Package Style: AxialMeter; Packaging: Tape and Reel; Power: 3W; Series: PNP; Technology: WIRE WOUND; Reach SVHC Compliant: Yes; RoHS Compliant: Yes; ComponentLink1URL: https://datasheet.ciiva.com:443/pdfs/VipMasterIC/IC/YAGO/YAGOS02178/YAGOS02178-1.pdf?src-supplier=IHS+Markit; ComponentLink1Description: https://datasheet.ciiva.com:443/pdfs/VipMasterIC/IC/YAGO/YAGOS02178/YAGOS02178-1.pdf?src-supplier=IHS+Markit; ComponentLink2URL: https://datasheet.ciiva.com/2725/yageolr-pnp-2013-2725286.pdf?src-supplier=Digikey; ComponentLink2Description: https://datasheet.ciiva.com/2725/yageolr-pnp-2013-2725286.pdf?src-supplier=Digikey; ComponentLink3URL: https://datasheet.ciiva.com/2725/yageolr-pnp-2013-2725287.pdf?src-supplier=Digikey; ComponentLink3Description: https://datasheet.ciiva.com/2725/yageolr-pnp-2013-2725287.pdf?src-supplier=Digikey
footprint RES-0R15-3W
pins: 1, 2

## RSF100JB-73-1K1
designator R?, comment 1K1, 1W
RES 1.1K OHM 5% 1W AXIAL; Manufacturer: Yageo; Manufacturer Part Number: RSF100JB-73-1K1; Supplier: Digikey; Supplier Part Number: 1.1KW-1-ND; RoHS: Yes; Category: Through-Hole Resistors; Stock: 4216; Pricing: 1=0.32, 10=0.254, 100=0.0991, 2000=0.04008, 6000=0.03644, 10000=0.03401 (USD); ComponentLink1URL: https://datasheet.ciiva.com:443/pdfs/VipMasterIC/IC/YAGO/YAGO-S-A0009358864/YAGO-S-A0009358864-1.pdf?src-supplier=IHS+Markit; ComponentLink1Description: https://datasheet.ciiva.com:443/pdfs/VipMasterIC/IC/YAGO/YAGO-S-A0009358864/YAGO-S-A0009358864-1.pdf?src-supplier=IHS+Markit; ComponentLink2URL: https://datasheet.ciiva.com/2715/yageolr-rsf-2013-2715034.pdf?src-supplier=Digikey; ComponentLink2Description: https://datasheet.ciiva.com/2715/yageolr-rsf-2013-2715034.pdf?src-supplier=Digikey; Value: 1k1
footprint RES-1K1-1W
pins: 1, 2